# EAGLE library part DS8228 (library Custom_old)
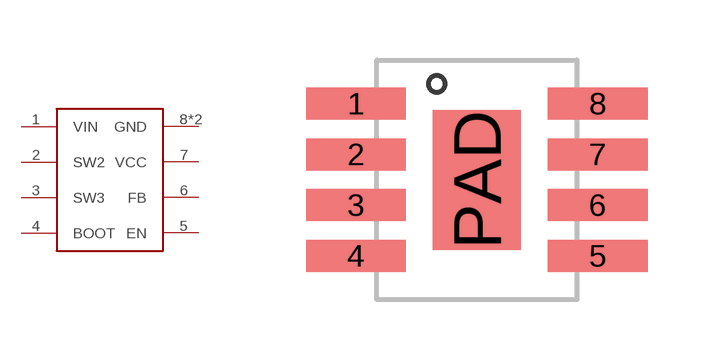
[diagram p13: symbol with the pads of SOIC8-EP; footprint SOIC8-EP]

Designator prefix -

## DS8228  [SOIC8-EP]
1  VIN
2  SW2
3  SW3
4  BOOT
5  EN
6  FB
7  VCC
8  GND
PAD  GND

## Footprint SOIC8-EP (pad centres in mm)
smd 2.5 x 0.8: 1 -3.02,1.905; 2 -3.02,0.635; 3 -3.02,-0.635; 4 -3.02,-1.905; 5 3.02,-1.905; 6 3.02,-0.635; 7 3.02,0.635; 8 3.02,1.905
smd 2.2 x 3.5: PAD 0,0